# Altium footprint library STM32F103Mini.PcbLib: 19 footprints (part 2 of 2)
Each footprint in its own frame and in the unit in brackets; x right, y up, seen from the top. Pads: shape width x height; smd on the part's side, far side on the other; paste and mask are expansions set on the pad; w line width, h text height; cw(c..) or ccw(c..) is an arc to the next point about the centre after c.
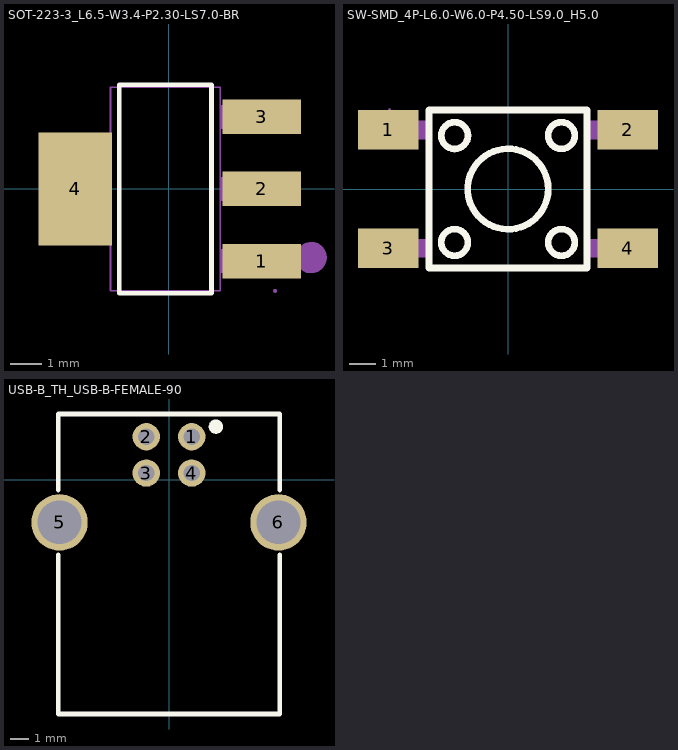
[diagram p1: the footprints below, top view; thin cyan lines are the x and y axes]

## SOT-223-3_L6.5-W3.4-P2.30-LS7.0-BR [mil]
pads (4):
  rect 98.4x43.3 smd: 1(116.9,-90.6) 2(116.9,0) 3(116.9,90.5)
  rect 92.1x141.7 smd: 4(-116.9,0)
Top Overlay:
  lines w6: -61.9,-131 -61.9,130.9 54,130.9 54,-131 -61.9,-131
Mechanical 2:
  lines w19.7: 169.4,-87.5 170.2,-90.1 171.6,-92.4 173.5,-94.2 175.9,-95.4 178.5,-96 181.2,-95.8 183.7,-94.9 185.9,-93.4 187.6,-91.3 188.7,-88.8 189,-86.2 188.7,-83.5 187.6,-81.1 185.9,-79 183.7,-77.4 181.2,-76.5 178.5,-76.4 175.9,-76.9 173.5,-78.1 171.6,-80 170.2,-82.3 169.4,-84.8 169.4,-87.5
Mechanical 6:
  lines w2: -72.8,-128 -72.8,127.9 65,127.9 65,-128 -72.8,-128
Mechanical 7:
  region: 64.6,75.7 64.6,105.3 104.7,105.3 104.7,75.7
  region: 64.6,-14.8 64.6,14.7 104.7,14.7 104.7,-14.8
  region: 64.6,-105.4 64.6,-75.8 104.7,-75.8 104.7,-105.4
  region: -112.6,-59.1 -112.6,59 -72.5,59 -72.5,-59.1
Mechanical 8:
  region: 136.2,-128 135.8,-129.3 134.8,-130.1 133.5,-130.3 132.3,-129.8 131.6,-128.7 131.6,-127.3 132.3,-126.2 133.5,-125.7 134.8,-125.8 135.8,-126.7
Mechanical 9:
  region: 104.3,75.7 104.3,105.3 133.8,105.3 133.8,75.7
  region: 104.3,-14.8 104.3,14.7 133.8,14.7 133.8,-14.8
  region: 104.3,-105.4 104.3,-75.8 133.8,-75.8 133.8,-105.4
  region: -141.7,-59.1 -141.7,59 -112.2,59 -112.2,-59.1

## SW-SMD_4P-L6.0-W6.0-P4.50-LS9.0_H5.0 [mil]
pads (4):
  rect 90.6x59.1 smd: 1(-179.1,88.6) 2(179.1,88.6) 3(-179.1,-88.6) 4(179.1,-88.6)
Top Overlay:
  drawing of 187 lines, arcs and shapes, not listed
Mechanical 6:
  lines w2: -118.1,-118.1 -118.1,118.1 118.1,118.1 118.1,-118.1 -118.1,-118.1
Mechanical 7:
  region: 117.7,74.8 117.7,102.4 138.2,102.4 138.2,74.8
  region: 117.7,-102.3 117.7,-74.8 138.2,-74.8 138.2,-102.3
  region: -138.2,-102.3 -138.2,-74.8 -117.7,-74.8 -117.7,-102.3
  region: -138.2,74.8 -138.2,102.4 -117.7,102.4 -117.7,74.8
Mechanical 8:
  region: -174.8,118.1 -175.2,116.8 -176.2,116 -177.5,115.8 -178.7,116.3 -179.4,117.5 -179.4,118.8 -178.7,119.9 -177.5,120.5 -176.2,120.3 -175.2,119.4
Mechanical 9:
  region: 137.8,74.8 137.8,102.4 177.2,102.4 177.2,74.8
  region: 137.8,-102.3 137.8,-74.8 177.2,-74.8 177.2,-102.3
  region: -177.2,-102.3 -177.2,-74.8 -137.8,-74.8 -137.8,-102.3
  region: -177.2,74.8 -177.2,102.4 -137.8,102.4 -137.8,74.8

## USB-B_TH_USB-B-FEMALE-90 [mil]
pads (6):
  round 59.1 hole 35.4: 1(49.2,92.7) 2(-49.2,92.7) 3(-49.2,14) 4(49.2,14)
  round 122 hole 94.5: 5(-237,-92.8) 6(237,-92.8)
Top Overlay:
  lines w10: -240.1,-162.8 -240.1,-507.7 240.2,-507.7 240.2,-162.8 ; -240.1,-22.7 -240.1,141.9 240.2,141.9 240.2,-22.7
  lines w15.7: 93.7,114.5 94.1,112.1 95.2,109.9 97,108.2 99.2,107.1 101.6,106.7 104,107.1 106.2,108.2 108,109.9 109.1,112.1 109.5,114.5 109.1,117 108,119.2 106.2,120.9 104,122 101.6,122.4 99.2,122 97,120.9 95.2,119.2 94.1,117 93.7,114.5